# Altium schematic symbol library ResistorSMD.SchLib: 1 symbol
Pins are listed as number, name and electrical type; pins without a type are passive.

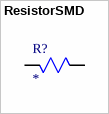
[diagram p0: symbol ResistorSMD]

## ResistorSMD
designator R?
Chip Resistor SMD
footprint ResistorSMD1206
footprint ResistorSMD0805
pins: 1, 2